# Altium footprint library VLF252010MT.PcbLib: 1 footprints
Each footprint in its own frame and in the unit in brackets; x right, y up, seen from the top. Pads: shape width x height; smd on the part's side, far side on the other; paste and mask are expansions set on the pad; w line width, h text height; cw(c..) or ccw(c..) is an arc to the next point about the centre after c.
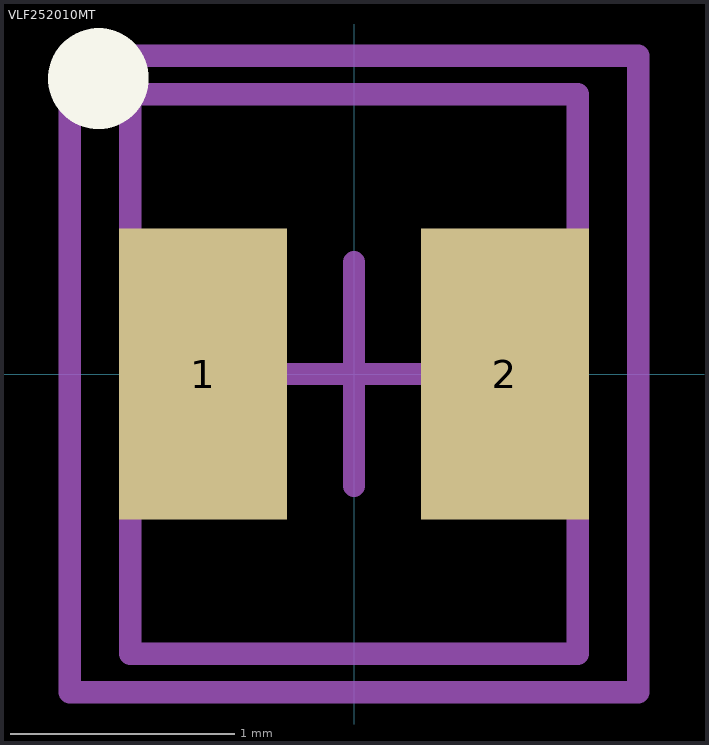
[diagram p0: the footprint, top view; thin cyan lines are the x and y axes]

## VLF252010MT [mm]
height 1
pads (2):
  rect 0.75x1.3 smd: 1(-0.675,0) 2(0.675,0)
Top Overlay:
  circle w0.4: c-1.143,1.321 r0.025
Mechanical 13:
  lines w0.1: -1,-1.25 1,-1.25 1,1.25 -1,1.25 -1,-1.25
Mechanical 15:
  lines w0.1: -0.5,0 0.5,0 ; 0,-0.5 0,0.5 ; -1.27,-1.422 1.27,-1.422 1.27,1.422 -1.27,1.422 -1.27,-1.422
3D body: height 1, standoff 0, extent -0.991,-1.245 0.991,1.245